# Altium schematic symbol library Supernova Capacitors.SchLib: 91 symbols
Pins are listed as number, name and electrical type; pins without a type are passive.

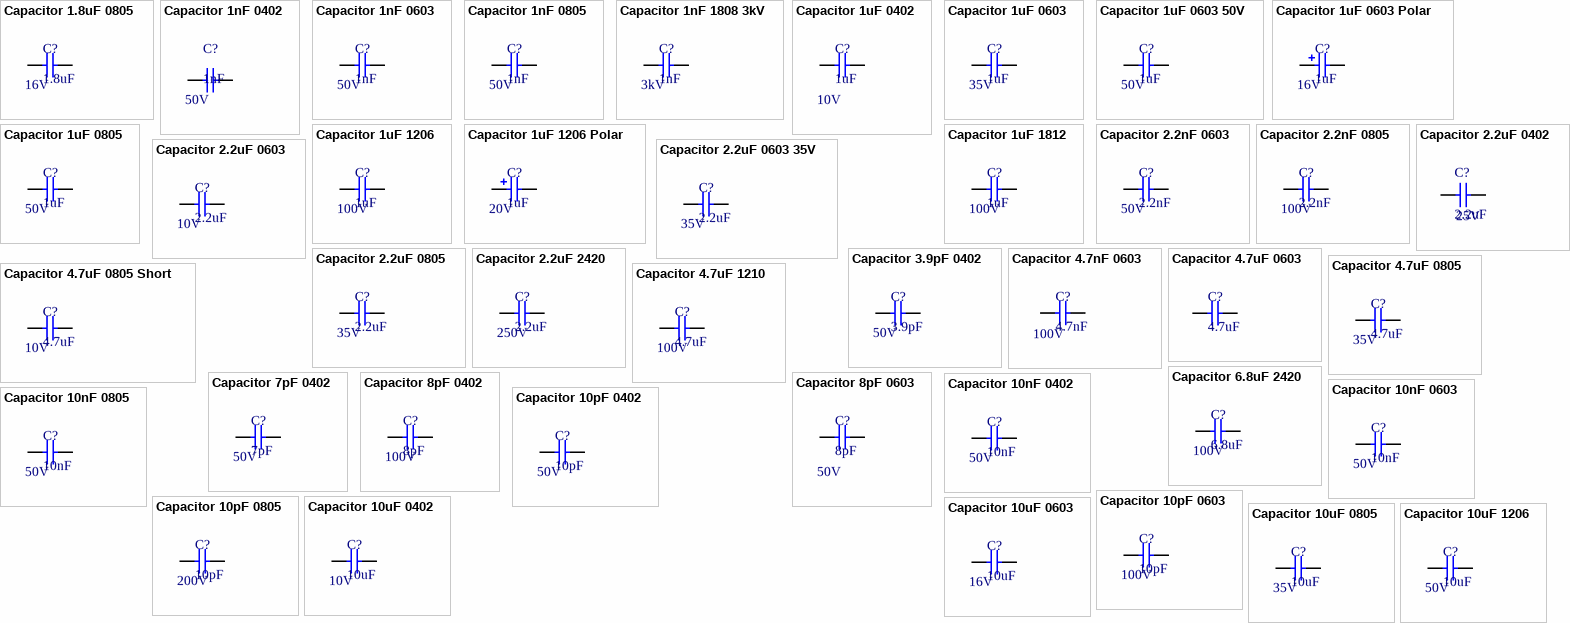
[diagram p0: symbols Capacitor 1.8uF 0805 to Capacitor 10uF 1206]

## Capacitor 1.8uF 0805
designator C?, comment 1.8uF  Voltage: 16V
Capacitor 1.8uF 0805 X7R 16V 10%; Value: 1.8uF; Supplier 1: Digi-Key; Supplier Part Number 1: 399-4933-1-ND; Supplier 2: Digi-Key; Supplier Part Number 2: 399-4934-1-ND
footprint 0805 CAP (Chip Capacitor, 2-Leads, Body 2.05x1.25mm, IPC Medium Density)
pins: 1, 2

## Capacitor 1nF 0402
designator C?, comment 1nF  Voltage: 50V
Capacitor 1nF 0402 NP0 50V 1%; Value: 1nF; Supplier 1: Digi-Key; Supplier Part Number 1: 399-8940-6-ND; Supplier 2: Digi-Key; Supplier Part Number 2: 490-8181-1-ND; Supplier 3: Digi-Key; Supplier Part Number 3: 490-16461-1-ND
footprint 0402 CAP (Chip Capacitor, 2-Leads, Body 1.00x0.50mm, IPC Medium Density)
pins: 1, 2

## Capacitor 1nF 0603
designator C?, comment 1nF  Voltage: 50V
Capacitor 1nF 0603 X7R 50V 5%; Mass_g: 0.0081; Value: 1nF; Supplier 1: Digi-Key; Supplier Part Number 1: 399-1083-1-ND; Supplier 2: Digi-Key; Supplier Part Number 2: 399-12989-1-ND; Supplier 3: Digi-Key; Supplier Part Number 3: 445-12385-1-ND; Supplier 4: Digi-Key; Supplier Part Number 4: 399-C0603C102J5GAC3190CT-ND
footprint 0603 CAP (Chip Capacitor, 2-Leads, Body 1.60x0.81mm, IPC Medium Density)
pins: 1, 2

## Capacitor 1nF 0805
designator C?, comment 1nF  Voltage: 50V
Capacitor 1nF 0805 X8R 50V 10%; Value: 1nF; Supplier 1: Digi-Key; Supplier Part Number 1: 478-3608-1-ND; Supplier 2: Digi-Key; Supplier Part Number 2: 478-5162-1-ND
footprint 0805 CAP (Chip Capacitor, 2-Leads, Body 2.05x1.25mm, IPC Medium Density)
pins: 1, 2

## Capacitor 1nF 1808 3kV
designator C?, comment 1nF  Voltage: 3kV
Capacitor 1nF 1808 X7R 3kV 10%; Value: 1nF; Supplier 1: Digi-Key; Supplier Part Number 1: 478-2981-1-ND; Supplier 2: Digi-Key; Supplier Part Number 2: 478-7474-1-ND; Supplier 3: Digi-Key; Supplier Part Number 3: 709-1047-1-ND; Supplier 4: Digi-Key; Supplier Part Number 4: 399-7246-1-ND; Supplier 5: Digi-Key; Supplier Part Number 5: 399-C1808C102KHRACAUTOCT-ND
footprint 1808 CAP (Chip Capacitor, 2-Leads, Body 4.57x2.03mm, IPC Medium Density)
pins: 1, 2

## Capacitor 1uF 0402
designator C?, comment 1uF  Voltage: 10V
Capacitor 1uF 0402 X5R 10V 10%; Value: 1uF; Supplier 1: Digi-Key; Supplier 2: Digi-Key; Supplier Part Number 1: 1276-1076-1-ND; Supplier Part Number 2: 311-1439-1-ND
footprint 0402 CAP (Chip Capacitor, 2-Leads, Body 1.00x0.50mm, IPC Medium Density)
pins: 1, 2

## Capacitor 1uF 0603
designator C?, comment 1uF  Voltage: 35V
Capacitor 1uF 0603 X7R 35V 10%; Mass_g: 0.0081; Value: 1uF; Supplier 1: Digi-Key; Supplier Part Number 1: 445-173625-1-ND; Supplier 2: Digi-Key; Supplier Part Number 2: 587-4356-1-ND; Supplier 3: Digi-Key; Supplier Part Number 3: 445-174215-1-ND; Supplier 4: Digi-Key; Supplier Part Number 4: 445-C1608X7R1V105M080ACCT-ND; Supplier 5: Mouser; Supplier Part Number 5: 810-C1608X7R1V105MAC
footprint 0603 CAP (Chip Capacitor, 2-Leads, Body 1.60x0.81mm, IPC Medium Density)
pins: 1, 2

## Capacitor 1uF 0603 50V
designator C?, comment 1uF  Voltage: 50V
Capacitor 1uF 0603 X7R 50V 10%; Mass_g: 0.0081; Value: 1uF; Supplier 1: Digi-Key; Supplier Part Number 1: 445-7878-1-ND; Supplier 2: Digi-Key; Supplier Part Number 2: 587-3501-1-ND; Supplier 3: Digi-Key; Supplier Part Number 3: 490-12330-1-ND
footprint 0603 CAP (Chip Capacitor, 2-Leads, Body 1.60x0.81mm, IPC Medium Density)
pins: 1, 2

## Capacitor 1uF 0603 Polar
designator C?, comment 1uF  Voltage: 16V
Capacitor 1uF 0603 TANT 16V 10%; Value: 1uF; Supplier 1: Digi-Key; Supplier Part Number 1: 718-1158-1-ND; Supplier 2: Digi-Key; Supplier Part Number 2: 478-4184-1-ND
footprint 0603 Polar Cap (Chip Capacitor, 2-Leads, Body 1.60x0.85mm, IPC Medium Density)
pins: 1, 2

## Capacitor 1uF 0805
designator C?, comment 1uF  Voltage: 50V
Capacitor 1uF 0805 X7R 50V 10%; Value: 1uF; Supplier 1: Digi-Key; Supplier 2: Digi-Key; Supplier 3: Digi-Key; Supplier Part Number 1: 1276-6470-1-ND; Supplier Part Number 2: 587-2910-1-ND; Supplier Part Number 3: 311-1886-1-ND
footprint 0805 CAP (Chip Capacitor, 2-Leads, Body 2.05x1.25mm, IPC Medium Density)
pins: 1, 2

## Capacitor 1uF 1206
designator C?, comment 1uF  Voltage: 100V
Capacitor 1uF 1206 X7R 100V 10%; Value: 1uF; Supplier 1: Digi-Key; Supplier Part Number 1: 1276-1838-1-ND; Supplier 2: Digi-Key; Supplier Part Number 2: 1276-3094-1-ND
footprint 1206 CAP (Chip Resistor, 2-Leads, Body 3.20x1.60mm, IPC Medium Density)
pins: 1, 2

## Capacitor 1uF 1206 Polar
designator C?, comment 1uF  Voltage: 20V
Capacitor 1uF 1206 TANT 20V 10%; Value: 1uF; Supplier 1: Digi-Key; Supplier 2: Digi-Key; Supplier Part Number 1: 478-2399-1-ND; Supplier Part Number 2: 718-1531-1-ND
footprint 1206 POLAR CAP (Chip Resistor, 2-Leads, Body 3.20x1.60mm, IPC Medium Density)
pins: 1, 2

## Capacitor 1uF 1812
designator C?, comment 1uF  Voltage: 100V
Capacitor 1uF 1812 X7R 100V 10%; Value: 1uF; Supplier 1: Digi-Key; Supplier 2: Digi-Key; Supplier Part Number 1: 399-11968-1-ND; Supplier Part Number 2: 478-3598-1-ND
footprint 1812 CAP (Chip Capacitor, 2-Leads, Body 4.50x3.20mm, IPC Medium Density)
pins: 1, 2

## Capacitor 2.2nF 0603
designator C?, comment 2.2nF  Voltage: 50V
Capacitor 2.2nF 0603 X7R 50V 5%; Mass_g: 0.0081; Value: 2.2nF; Supplier 1: Digi-Key; Supplier Part Number 1: 399-7879-1-ND; Supplier 2: Digi-Key; Supplier Part Number 2: 478-6205-1-ND
footprint 0603 CAP (Chip Capacitor, 2-Leads, Body 1.60x0.81mm, IPC Medium Density)
pins: 1, 2

## Capacitor 2.2nF 0805
designator C?, comment 2.2nF  Voltage: 100V
Capacitor 2.2nF 0805 X7R 100V 5%; Value: 2.2nF; Supplier 1: Digi-Key; Supplier Part Number 1: 478-3746-1-ND; Supplier 2: Digi-Key; Supplier Part Number 2: 478-11623-1-ND
footprint 0805 CAP (Chip Capacitor, 2-Leads, Body 2.05x1.25mm, IPC Medium Density)
pins: 1, 2

## Capacitor 2.2uF 0402
designator C?, comment 2.2uF  Voltage: 25V
Capacitor 2.2uF 0402 X5R 25V 10%; Value: 2.2uF; Supplier 1: Digi-Key; Supplier 2: RSComponents; Supplier 3: Mouser; Supplier Part Number 3: 810-C1005X5R1E225K; Supplier Part Number 2: 9156348P; Supplier Part Number 1: 445-9090-1-ND
footprint 0402 CAP (Chip Capacitor, 2-Leads, Body 1.00x0.50mm, IPC Medium Density)
pins: 1, 2

## Capacitor 2.2uF 0603
designator C?, comment 2.2uF  Voltage: 10V
Capacitor 2.2uF 0603 X7R 10V 10%; Mass_g: 0.0081; Value: 2.2uF; Voltage Rating: 10V; Supplier 1: Digi-Key; Supplier Part Number 1: 445-5958-1-ND; Supplier 2: Digi-Key; Supplier Part Number 2: 587-5835-1-ND; Supplier 3: Digi-Key; Supplier Part Number 3: 732-7946-1-ND; Supplier 4: Digi-Key; Supplier Part Number 4: 587-2983-1-ND; Supplier 5: Digi-Key; Supplier Part Number 5: 1276-1134-1-ND
footprint 0603 CAP (Chip Capacitor, 2-Leads, Body 1.60x0.81mm, IPC Medium Density)
pins: 1, 2

## Capacitor 2.2uF 0603 35V
designator C?, comment 2.2uF  Voltage: 35V
Capacitor 2.2uF 0603 X5R 35V 10%; Mass_g: 0.0081; Value: 2.2uF; Voltage Rating: 35V; Supplier 1: Digi-Key; Supplier Part Number 1: 490-7204-1-ND; Supplier 2: Digi-Key; Supplier Part Number 2: 1276-6726-1-ND
footprint 0603 CAP (Chip Capacitor, 2-Leads, Body 1.60x0.81mm, IPC Medium Density)
pins: 1, 2

## Capacitor 2.2uF 0805
designator C?, comment 2.2uF  Voltage: 35V
Capacitor 2.2uF 0805 X7R 35V 10%; Voltage Rating: 50V; Value: 2.2uF; Supplier 1: Digi-Key; Supplier 2: Digi-Key; Supplier 3: Digi-Key; Supplier 4: Mouser; Supplier Part Number 1: 445-8787-1-ND; Supplier Part Number 2: 445-8892-1-ND; Supplier Part Number 3: 445-7956-1-ND; Supplier Part Number 4: 810-CGA4J1X7R1V225MS
footprint 0805 CAP (Chip Capacitor, 2-Leads, Body 2.05x1.25mm, IPC Medium Density)
pins: 1, 2

## Capacitor 2.2uF 2420
designator C?, comment 2.2uF  Voltage: 250V
Capacitor 2.2uF 2420 X7R 250V 20%; Voltage Rating: 50V; Mass_g: 0.75; Value: 2.2uF; Supplier 1: Digi-Key; Supplier Part Number 1: 565-3244-1-ND; Supplier 2: Mouser; Supplier Part Number 2: 661-KTJ251B225M55BFT; Supplier 3: Digi-Key; Supplier Part Number 3: 445-4110-1-ND; Supplier 4: Mouser; Supplier Part Number 4: 810-CKG57NX7R2E225M; Supplier 5: Digi-Key; Supplier Part Number 5: 445-10508-1-ND; Supplier 6: Digi-Key; Supplier Part Number 6: 399-5814-1-ND
footprint 2420 CAP (Chip Capacitor, 2-Leads, Body 6.00x5.00mm, IPC Medium Density)
pins: 1, 2

## Capacitor 3.9pF 0402
designator C?, comment 3.9pF  Voltage: 50V
Capacitor 3.9pF 0402 NP0 50V +/-0.1pF; Value: 3.9pF; Supplier 1: Digi-Key; Supplier 2: Digi-Key; Supplier Part Number 2: 478-11759-1-ND; Supplier Part Number 1: 490-8099-1-ND
footprint 0402 CAP (Chip Capacitor, 2-Leads, Body 1.00x0.50mm, IPC Medium Density)
pins: 1, 2

## Capacitor 4.7nF 0603
designator C?, comment 4.7nF  Voltage: 100V
Capacitor 4.7nF 0603 X7R 100V 10%; Mass_g: 0.0081; Value: 4.7nF; Supplier 1: Digi-Key; Supplier Part Number 1: 445-5810-1-ND; Supplier 2: Digi-Key; Supplier Part Number 2: 490-5773-1-ND
footprint 0603 CAP (Chip Capacitor, 2-Leads, Body 1.60x0.81mm, IPC Medium Density)
pins: 1, 2

## Capacitor 4.7uF 0603
designator C?, comment 4.7uF
Capacitor 4.7uF 0603 X7R 6.3V 10%; Value: 4.7uF; Supplier 1: Digi-Key; Supplier Part Number 1: 1276-2087-1-ND; Supplier 2: Digi-Key; Supplier 3: Digi-Key; Supplier Part Number 2: 445-7482-1-ND; Supplier Part Number 3: 399-5503-1-ND; Voltage: 6.3V
footprint 0603 CAP (Chip Capacitor, 2-Leads, Body 1.60x0.81mm, IPC Medium Density)
pins: 1, 2

## Capacitor 4.7uF 0805
designator C?, comment 4.7uF  Voltage: 35V
Capacitor 4.7uF 0805 X7R 35V 10%; Mass_g: 0.019; Value: 4.7uF; Supplier 1: Digi-Key; Supplier Part Number 1: 445-172479-1-ND; Supplier 2: Digi-Key; Supplier Part Number 2: 1276-6722-1-ND; Supplier 3: Digi-Key; Supplier Part Number 3: 490-12361-1-ND; Supplier 4: Digi-Key; Supplier Part Number 4: 445-7555-1-ND
footprint 0805 CAP (Chip Capacitor, 2-Leads, Body 2.05x1.25mm, IPC Medium Density)
pins: 1, 2

## Capacitor 4.7uF 0805 Short
designator C?, comment 4.7uF  Voltage: 10V
Capacitor 4.7uF 0805 X5R 10V 10%; Value: 4.7uF; Supplier 1: Digi-Key; Supplier 2: Digi-Key; Supplier 3: Digi-Key; Supplier Part Number 1: 587-4879-1-ND; Supplier Part Number 2: 587-4922-1-ND; Supplier Part Number 3: 587-4880-1-ND
footprint 0805 CAP - short (Chip Capacitor, 2-Leads, Body 2.05x1.25mm, IPC Medium Density)
pins: 1, 2

## Capacitor 4.7uF 1210
designator C?, comment 4.7uF  Voltage: 100V
Capacitor 4.7uF 1210 X7S 100V 20%; Value: 4.7uF; Supplier 1: Digi-Key; Supplier Part Number 1: 445-7985-1-ND; Supplier 2: Digi-Key; Supplier Part Number 2: 490-10955-1-ND
footprint 1210 CAP 2mm (Chip Capacitor, 2-Leads, Body 3.20x2.50mm, IPC Medium Density)
pins: 1, 2

## Capacitor 6.8uF 2420
designator C?, comment 6.8uF  Voltage: 100V
Capacitor 6.8uF 2420 X7R 100V 10%; Value: 6.8uF; Voltage Rating: 100V; Supplier 1: Digi-Key; Supplier Part Number 1: 490-5782-1-ND; Supplier 2: Digi-Key; Supplier Part Number 2: 490-5836-1-ND
footprint 2420 CAP (Chip Capacitor, 2-Leads, Body 6.00x5.00mm, IPC Medium Density)
pins: 1, 2

## Capacitor 7pF 0402
designator C?, comment 7pF  Voltage: 50V
Capacitor 7pF 0402 NP0 50V 0.1pF; Value: 7pF; Supplier 1: Digi-Key; Supplier Part Number 1: 490-6254-1-ND; Supplier 2: Digi-Key; Supplier Part Number 2: 490-11234-1-ND
footprint 0402 CAP (Chip Capacitor, 2-Leads, Body 1.00x0.50mm, IPC Medium Density)
pins: 1, 2

## Capacitor 8pF 0402
designator C?, comment 8pF  Voltage: 100V
Capacitor 8pF 0402 NP0 100V 0.1pF; Mass_g: 0.0025; Value: 8pF; Supplier 1: Digi-Key; Supplier Part Number 1: 399-8830-1-ND; Supplier 2: Digi-Key; Supplier Part Number 2: 490-11238-1-ND
footprint 0402 CAP (Chip Capacitor, 2-Leads, Body 1.00x0.50mm, IPC Medium Density)
pins: 1, 2

## Capacitor 8pF 0603
designator C?, comment 8pF  Voltage: 50V
Capacitor 8pF 0603 NP0 50V 0.25pF; Value: 8pF; Supplier 1: Digi-Key; Supplier Part Number 1: 1276-2139-1-ND; Supplier 2: Digi-Key; Supplier Part Number 2: 490-14618-1-ND
footprint 0603 CAP (Chip Capacitor, 2-Leads, Body 1.60x0.81mm, IPC Medium Density)
pins: 1, 2

## Capacitor 10nF 0402
designator C?, comment 10nF  Voltage: 50V
Capacitor 10nF 0402 X7R 50V 5%; Value: 10nF; Supplier 1: Digi-Key; Supplier Part Number 1: 399-7758-6-ND; Supplier 2: Digi-Key; Supplier 3: Digi-Key; Supplier Part Number 2: 445-6893-1-ND; Supplier Part Number 3: 490-13295-1-ND
footprint 0402 CAP (Chip Capacitor, 2-Leads, Body 1.00x0.50mm, IPC Medium Density)
pins: 1, 2

## Capacitor 10nF 0603
designator C?, comment 10nF  Voltage: 50V
Capacitor 10nF 0603 X7R 50V 5%; Mass_g: 0.0081; Value: 10nF; Supplier 1: Digi-Key; Supplier Part Number 1: 399-1092-1-ND; Supplier 2: Digi-Key; Supplier 3: Digi-Key; Supplier Part Number 2: 399-3190-1-ND; Supplier Part Number 3: 478-10345-1-ND
footprint 0603 CAP (Chip Capacitor, 2-Leads, Body 1.60x0.81mm, IPC Medium Density)
pins: 1, 2

## Capacitor 10nF 0805
designator C?, comment 10nF  Voltage: 50V
Capacitor 10nF 0805 X7R 50V 5%; Value: 10nF; Supplier 1: Digi-Key; Supplier Part Number 1: 478-3768-1-ND; Supplier 2: Digi-Key; Supplier Part Number 2: 399-13174-1-ND
footprint 0805 CAP (Chip Capacitor, 2-Leads, Body 2.05x1.25mm, IPC Medium Density)
pins: 1, 2

## Capacitor 10pF 0402
designator C?, comment 10pF  Voltage: 50V
Capacitor 10pF 0402 NP0 50V 5%; Mass_g: 0.0025; Value: 10pF; Supplier 1: Digi-Key; Supplier Part Number 1: 1276-1626-1-ND; Supplier 2: Digi-Key; Supplier Part Number 2: 490-16462-1-ND
footprint 0402 CAP (Chip Capacitor, 2-Leads, Body 1.00x0.50mm, IPC Medium Density)
pins: 1, 2

## Capacitor 10pF 0603
designator C?, comment 10pF  Voltage: 100V
Capacitor 10pF 0603 NP0 100V 1%; Mass_g: 0.0081; Value: 10pF; Supplier 1: Digi-Key; Supplier Part Number 1: 478-5769-1-ND; Supplier 2: Digi-Key; Supplier Part Number 2: 311-3876-1-ND; Supplier 3: Digi-Key; Supplier Part Number 3: 478-10183-1-ND
footprint 0603 CAP (Chip Capacitor, 2-Leads, Body 1.60x0.81mm, IPC Medium Density)
pins: 1, 2

## Capacitor 10pF 0805
designator C?, comment 10pF  Voltage: 200V
Capacitor 10pF 0805 COG 200V 2%; Mass_g: 0.019; Value: 10pF; Supplier 1: Digi-Key; Supplier Part Number 1: 478-10457-1-ND; Supplier 2: Digi-Key; Supplier Part Number 2: 399-5538-1-ND
footprint 0805 CAP (Chip Capacitor, 2-Leads, Body 2.05x1.25mm, IPC Medium Density)
pins: 1, 2

## Capacitor 10uF 0402
designator C?, comment 10uF  Voltage: 10V
Capacitor 10uF 0402 X5R 10V 20%; Voltage Rating: 35V; Value: 10uF; Supplier 1: Digi-Key; Supplier Part Number 1: 1276-1450-1-ND; Supplier 2: Digi-Key; Supplier Part Number 2: 478-10052-1-ND
footprint 0402 CAP (Chip Capacitor, 2-Leads, Body 1.00x0.50mm, IPC Medium Density)
pins: 1, 2

## Capacitor 10uF 0603
designator C?, comment 10uF  Voltage: 16V
Capacitor 10uF 0603 X5R 16V 10%; Voltage Rating: 35V; Mass_g: 0.0081; Value: 10uF; Supplier 1: Digi-Key; Supplier Part Number 1: 490-10728-1-ND; Supplier 2: Digi-Key; Supplier 3: Digi-Key; Supplier Part Number 2: 490-12317-1-ND; Supplier Part Number 3: 445-9065-1-ND
footprint 0603 CAP (Chip Capacitor, 2-Leads, Body 1.60x0.81mm, IPC Medium Density)
pins: 1, 2

## Capacitor 10uF 0805
designator C?, comment 10uF  Voltage: 35V
Capacitor 10uF 0805 X5R 35V 10%; Mass_g: 0.019; Value: 10uF; Voltage Rating: 35V; Supplier 1: Digi-Key; Supplier Part Number 1: 445-14417-1-ND; Supplier 2: Digi-Key; Supplier Part Number 2: 587-4893-1-ND; Supplier 3: Digi-Key; Supplier Part Number 3: 490-10515-1-ND; Supplier 4: RSComponents; Supplier Part Number 4: 1726499; Supplier 5: Digi-Key; Supplier Part Number 5: 311-3499-2-ND; Supplier 6: Digi-Key; Supplier Part Number 6: 490-18664-1-ND; Supplier 7: Mouser; Supplier Part Number 7: 81-GRM21BR61H106ME3L; Supplier 8: Digi-Key; Supplier Part Number 8: 445-14418-1-ND
footprint 0805 CAP (Chip Capacitor, 2-Leads, Body 2.05x1.25mm, IPC Medium Density)
footprint 0805 CAP - SM Defined (Chip Capacitor, 2-Leads, Body 2.05x1.25mm, IPC Medium Density)
pins: 1, 2

## Capacitor 10uF 1206
designator C?, comment 10uF  Voltage: 50V
Capacitor 10uF 1206 X5R 50V 20%; Value: 10uF; Voltage Rating: 50V; Supplier 1: Digi-Key; Supplier Part Number 1: 445-1277-1-ND; Supplier 2: Mouser; Supplier Part Number 2: 810-C1608C0G1H470J; Supplier 3: Digi-Key; Supplier Part Number 3: 490-12457-1-ND; Supplier 4: Mouser; Supplier Part Number 4: 81-GRT31CR61H106ME1L
footprint 1206 CAP (Chip Resistor, 2-Leads, Body 3.20x1.60mm, IPC Medium Density)
pins: 1, 2

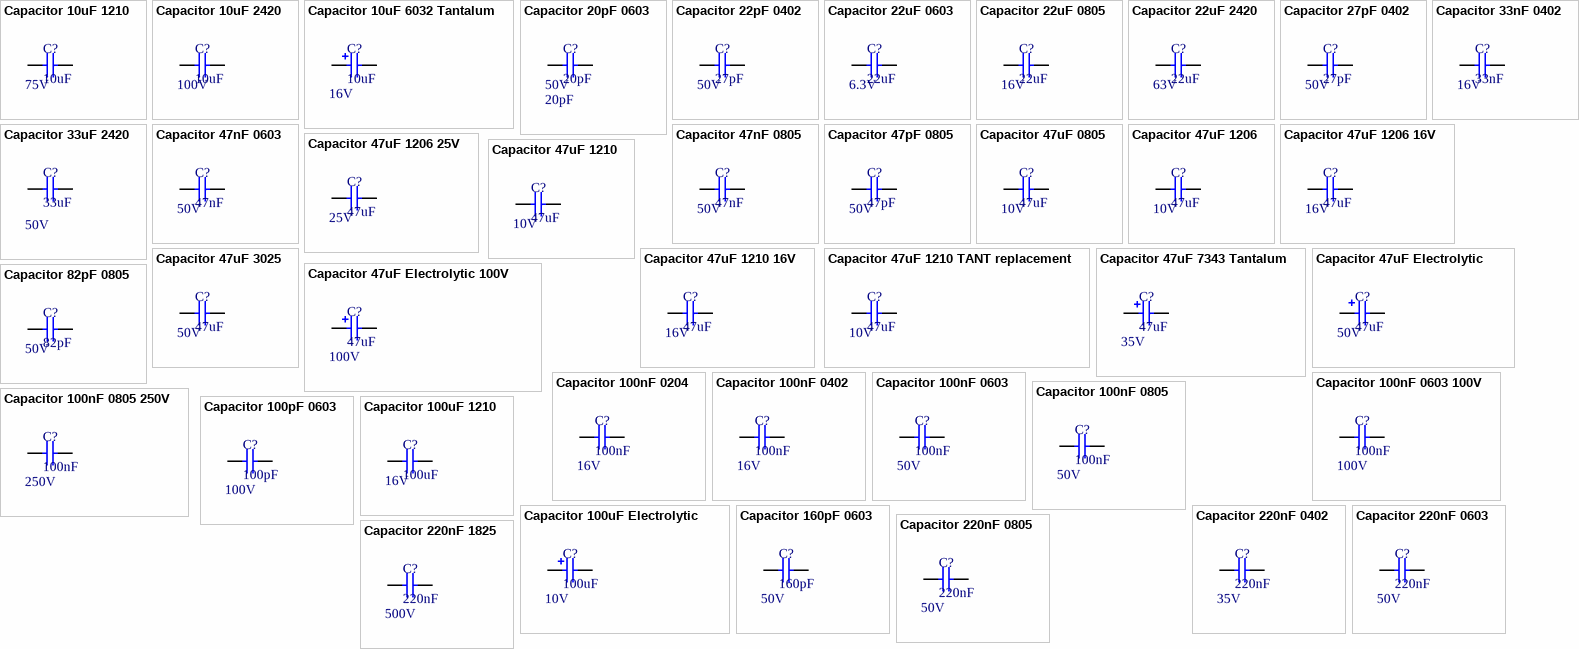
[diagram p1: symbols Capacitor 10uF 1210 to Capacitor 220nF 1825]

## Capacitor 10uF 1210
designator C?, comment 10uF  Voltage: 75V
Capacitor 10uF 1210 X7R 75V 10%; Value: 10uF; Voltage Rating: 75V; Supplier 1: Digi-Key; Supplier Part Number 1: 445-181658-1-ND; Supplier 2: Digi-Key; Supplier Part Number 2: 445-C3225X7R1N106K250ACCT-ND
footprint 1210 CAP (Chip Capacitor, 2-Leads, Body 3.20x2.50mm, IPC Medium Density)
pins: 1, 2

## Capacitor 10uF 2420
designator C?, comment 10uF  Voltage: 100V
Capacitor 10uF 2420 X7R 100V 20%; Voltage Rating: 35V; Mass_g: 0.75; Value: 10uF; Supplier 1: Digi-Key; Supplier 2: Digi-Key; Supplier Part Number 1: 445-4109-1-ND; Supplier Part Number 2: 565-3241-1-ND
footprint 2420 CAP (Chip Capacitor, 2-Leads, Body 6.00x5.00mm, IPC Medium Density)
pins: 1, 2

## Capacitor 10uF 6032 Tantalum
designator C?, comment 10uF  Voltage: 16V
Capacitor 10uF 6032 TANT 16V 10%; Value: 10uF; Supplier 1: Digi-Key; Supplier Part Number 1: 399-3732-1-ND; Supplier 2: Digi-Key; Supplier Part Number 2: 399-3733-1-ND
footprint 6032 POLAR CAP (Molded Capacitor, 2-Leads, Body 6.00x3.20mm, IPC Medium Density)
pins: 1, 2

## Capacitor 20pF 0603
designator C?, comment 20pF  Voltage: 50V
Capacitor 20pF 0603 X7R 50V 5%; Mass_g: 0.0081; Supplier 1: Digi-Key; Supplier 2: Mouser; Supplier Part Number 1: 490-1410-1-ND; Supplier Part Number 2: 187-CL10C200JB8NNNC; Value: 20pF
footprint 0603 CAP (Chip Capacitor, 2-Leads, Body 1.60x0.81mm, IPC Medium Density)
pins: 1, 2

## Capacitor 22pF 0402
designator C?, comment 27pF  Voltage: 50V
Capacitor 22pF 0402 NP0 50V 1%; Value: 27pF; Supplier 1: Digi-Key; Supplier 2: Digi-Key; Supplier 3: Digi-Key; Supplier Part Number 1: 311-3330-1-ND; Supplier Part Number 2: 490-16451-1-ND; Supplier Part Number 3: 490-17796-1-ND
footprint 0402 CAP (Chip Capacitor, 2-Leads, Body 1.00x0.50mm, IPC Medium Density)
pins: 1, 2

## Capacitor 22uF 0603
designator C?, comment 22uF  Voltage: 6.3V
Capacitor 22uF 0603 X5R 6.3V 10%; Voltage Rating: 25V; Value: 22uF; Supplier 1: Digi-Key; Supplier Part Number 1: 1276-2867-1-ND; Supplier 2: Digi-Key; Supplier Part Number 2: 1276-2868-1-ND
footprint 0603 CAP (Chip Capacitor, 2-Leads, Body 1.60x0.81mm, IPC Medium Density)
pins: 1, 2

## Capacitor 22uF 0805
designator C?, comment 22uF  Voltage: 16V
Capacitor 22uF 0805 X5R 16V 20%; Voltage Rating: 25V; Value: 22uF; Supplier 1: Digi-Key; Supplier Part Number 1: 1276-6526-1-ND; Supplier 2: Digi-Key; Supplier Part Number 2: 1276-2908-1-ND; Supplier 3: Digi-Key; Supplier Part Number 3: 1276-6780-1-ND; Supplier 4: Digi-Key; Supplier Part Number 4: 490-12383-1-ND
footprint 0805 CAP (Chip Capacitor, 2-Leads, Body 2.05x1.25mm, IPC Medium Density)
pins: 1, 2

## Capacitor 22uF 2420
designator C?, comment 22uF  Voltage: 63V
Capacitor 22uF 2420 X7R 63V 20%; Value: 22uF; Voltage Rating: 63V; Supplier 1: Digi-Key; Supplier Part Number 1: 490-5786-1-ND; Supplier 2: Digi-Key; Supplier Part Number 2: 490-5839-1-ND
footprint 2420 CAP (Chip Capacitor, 2-Leads, Body 6.00x5.00mm, IPC Medium Density)
pins: 1, 2

## Capacitor 27pF 0402
designator C?, comment 27pF  Voltage: 50V
Capacitor 27pF 0402 NP0 50V 1%; Value: 27pF; Supplier 1: Digi-Key; Supplier Part Number 1: 490-6223-1-ND; Supplier 2: Digi-Key; Supplier 3: Digi-Key; Supplier Part Number 2: 399-11120-1-ND; Supplier Part Number 3: 478-10094-1-ND
footprint 0402 CAP (Chip Capacitor, 2-Leads, Body 1.00x0.50mm, IPC Medium Density)
pins: 1, 2

## Capacitor 33nF 0402
designator C?, comment 33nF  Voltage: 16V
Capacitor 33nF 0402 X7R 16V 10%; Value: 33nF; Supplier 1: Digi-Key; Supplier 2: Digi-Key; Supplier Part Number 1: 1276-1177-1-ND; Supplier Part Number 2: 490-3257-1-ND
footprint 0402 CAP (Chip Capacitor, 2-Leads, Body 1.00x0.50mm, IPC Medium Density)
pins: 1, 2

## Capacitor 33uF 2420
designator C?, comment 33uF  Voltage: 50V
Capacitor 33uF 2420 X7R 50V 20%; Mass_g: 0.75; Value: 33uF; Voltage Rating: 50V; Supplier 1: Digi-Key; Supplier Part Number 1: 490-16297-1-ND; Supplier 2: Arrow Electronics; Supplier Part Number 2: KCM55WR71H336MH01L; Supplier 3: Digi-Key; Supplier Part Number 3: 490-14473-1-ND
footprint 2420 CAP (Chip Capacitor, 2-Leads, Body 6.00x5.00mm, IPC Medium Density)
pins: 1, 2

## Capacitor 47nF 0603
designator C?, comment 47nF  Voltage: 50V
Capacitor 47nF 0603 X7R 50V 5%; Value: 47nF; Supplier 1: Digi-Key; Supplier Part Number 1: 399-7930-1-ND; Supplier 2: Digi-Key; Supplier Part Number 2: 399-9094-1-ND
footprint 0603 CAP (Chip Capacitor, 2-Leads, Body 1.60x0.81mm, IPC Medium Density)
pins: 1, 2

## Capacitor 47nF 0805
designator C?, comment 47nF  Voltage: 50V
Capacitor 47nF 0805 X7R 50V 5%; Value: 47nF; Supplier 1: Digi-Key; Supplier Part Number 1: 478-3771-1-ND; Supplier 2: Digi-Key; Supplier Part Number 2: 478-10691-1-ND
footprint 0805 CAP (Chip Capacitor, 2-Leads, Body 2.05x1.25mm, IPC Medium Density)
pins: 1, 2

## Capacitor 47pF 0805
designator C?, comment 47pF  Voltage: 50V
Capacitor 47pF 0805 NP0 50V 5%; Value: 47pF; Supplier 1: Digi-Key; Supplier Part Number 1: 1276-1156-1-ND; Supplier 2: Digi-Key; Supplier Part Number 2: 399-6963-1-ND; Supplier 3: Digi-Key; Supplier Part Number 3: 1276-6521-1-ND
footprint 0805 CAP (Chip Capacitor, 2-Leads, Body 2.05x1.25mm, IPC Medium Density)
pins: 1, 2

## Capacitor 47uF 0805
designator C?, comment 47uF  Voltage: 10V
Capacitor 47uF 0805 X5R 10V 20%; Value: 47uF; Supplier 1: Digi-Key; Supplier Part Number 1: 445-8239-1-ND; Supplier 2: Digi-Key; Supplier Part Number 2: 587-5465-1-ND
footprint 0805 CAP (Chip Capacitor, 2-Leads, Body 2.05x1.25mm, IPC Medium Density)
pins: 1, 2

## Capacitor 47uF 1206
designator C?, comment 47uF  Voltage: 10V
Capacitor 47uF 1206 X5R 10V 10%; Value: 47uF; Supplier 1: Digi-Key; Supplier Part Number 1: 587-1780-2-ND; Supplier 2: Digi-Key; Supplier Part Number 2: 587-3428-2-ND; Supplier 3: Digi-Key; Supplier Part Number 3: 490-12438-1-ND
footprint 1206 CAP (Chip Resistor, 2-Leads, Body 3.20x1.60mm, IPC Medium Density)
pins: 1, 2

## Capacitor 47uF 1206 16V
designator C?, comment 47uF  Voltage: 16V
Capacitor 47uF 1206 X5R 16V 20%; Value: 47uF; Supplier 1: Digi-Key; Supplier Part Number 1: 478-1206YD476MAT2ACT-ND; Supplier 2: Mouser; Supplier Part Number 2: 963-EMK316BBJ476ML-T
footprint 1206 CAP (Chip Resistor, 2-Leads, Body 3.20x1.60mm, IPC Medium Density)
pins: 1, 2

## Capacitor 47uF 1206 25V
designator C?, comment 47uF  Voltage: 25V
Capacitor 47uF 1206 X5R 25V 20%; Value: 47uF; Supplier 1: Digi-Key; Supplier Part Number 1: 445-8047-1-ND; Supplier 2: Digi-Key; Supplier Part Number 2: 490-16268-1-ND; Supplier 3: RSComponents; Supplier Part Number 3: 7883060
footprint 1206 CAP (Chip Resistor, 2-Leads, Body 3.20x1.60mm, IPC Medium Density)
pins: 1, 2

## Capacitor 47uF 1210
designator C?, comment 47uF  Voltage: 10V
Capacitor 47uF 1210 X7R 10V 10%; Value: 47uF; Supplier 1: Digi-Key; Supplier Part Number 1: 490-5312-1-ND; Supplier 2: Digi-Key; Supplier Part Number 2: 1276-3376-1-ND
footprint 1210 CAP (Chip Capacitor, 2-Leads, Body 3.20x2.50mm, IPC Medium Density)
pins: 1, 2

## Capacitor 47uF 1210 16V
designator C?, comment 47uF  Voltage: 16V
Capacitor 47uF 1210 X6S 16V 10%; Value: 47uF; Supplier 1: Digi-Key; Supplier Part Number 1: 490-12494-1-ND; Supplier 2: Digi-Key; Supplier Part Number 2: 490-12495-1-ND
footprint 1210 CAP (Chip Capacitor, 2-Leads, Body 3.20x2.50mm, IPC Medium Density)
pins: 1, 2

## Capacitor 47uF 1210 TANT replacement
designator C?, comment 47uF  Voltage: 10V
Capacitor 47uF 1210 X7R 10V 20%; Value: 47uF; Supplier 1: Digi-Key; Supplier Part Number 1: 399-12072-1-ND; Supplier 2: Mouser; Supplier Part Number 2: 80-C1210C476M8R
footprint 6032 POLAR CAP (Molded Capacitor, 2-Leads, Body 6.00x3.20mm, IPC Medium Density)
pins: 1, 2

## Capacitor 47uF 3025
designator C?, comment 47uF  Voltage: 50V
Capacitor 47uF 3025 X7R 50V 20%; Value: 47uF; Supplier 1: Digi-Key; Supplier Part Number 1: 565-4687-1-ND; Supplier 2: Mouser; Supplier Part Number 2: 661-KTJ500B476M76BFT
footprint 3025 Cap
pins: 1, 2

## Capacitor 47uF 7343 Tantalum
designator C?, comment 47uF  Voltage: 35V
Capacitor 47uF 7343 TANT 35V 10%; Value: 47uF; Supplier 1: Digi-Key; Supplier Part Number 1: 399-3905-1-ND; Supplier 2: Digi-Key; Supplier Part Number 2: 399-10312-1-ND
footprint 7043 POLAR CAP (Molded Capacitor, 2-Leads, Body 7.30x4.30mm, IPC Medium Density)
pins: 1, 2

## Capacitor 47uF Electrolytic
designator C?, comment 47uF  Voltage: 50V
Capacitor 47uF ELECTROLYTIC 6.3mm SMD 50V 20%; Value: 47uF; Supplier 1: Digi-Key; Supplier Part Number 1: PCE4800CT-ND; Supplier 2: Digi-Key; Supplier Part Number 2: PCE3929CT-ND
footprint CAPACITOR 6.3mm SMD (Aluminum Electrolytic Capacitor, Body 6.60x35.40x8.00mm, IPC Low Density)
pins: 1, 2

## Capacitor 47uF Electrolytic 100V
designator C?, comment 47uF  Voltage: 100V
Capacitor 47uF ELECTROLYTIC 10mm 100V 20%; Value: 47uF; Supplier 1: Digi-Key; Supplier 2: Mouser; Supplier 3: Digi-Key; Supplier Part Number 1: 732-11986-1-ND; Supplier Part Number 2: 710-870055975004; Supplier Part Number 3: 1572-1734-ND
footprint Capacitor 10mm TH
pins: 1, 2

## Capacitor 82pF 0805
designator C?, comment 82pF  Voltage: 50V
Capacitor 82pF 0805 NP0 50V 5%; Value: 82pF; Supplier 1: Digi-Key; Supplier Part Number 1: 1276-2695-1-ND; Supplier 2: Digi-Key; Supplier Part Number 2: 399-19480-1-ND
footprint 0805 CAP (Chip Capacitor, 2-Leads, Body 2.05x1.25mm, IPC Medium Density)
pins: 1, 2

## Capacitor 100nF 0204
designator C?, comment 100nF  Voltage: 16V
Capacitor 100nF 0204 X5R 16V 20%; Value: 100nF; Supplier 1: Digi-Key; Supplier Part Number 1: 445-13583-1-ND; Supplier 2: Digi-Key; Supplier Part Number 2: 587-5138-1-ND
footprint 0204 CAP (Chip Capacitor, 2-Leads, Body 0.52x1.00mm, IPC Medium Density)
pins: 1, 2

## Capacitor 100nF 0402
designator C?, comment 100nF  Voltage: 16V
Capacitor 100nF 0402 X7R 16V 5%; Mass_g: 0.0025; Value: 100nF; Supplier 1: Digi-Key; Supplier Part Number 1: 399-7761-1-ND; Supplier 2: Digi-Key; Supplier Part Number 2: 478-11505-1-ND; Supplier 3: Digi-Key; Supplier Part Number 3: 587-1994-1-ND; Supplier 4: Digi-Key; Supplier Part Number 4: 478-11502-1-ND; Supplier 5: Digi-Key; Supplier Part Number 5: 478-10050-1-ND
footprint 0402 CAP (Chip Capacitor, 2-Leads, Body 1.00x0.50mm, IPC Medium Density)
pins: 1, 2

## Capacitor 100nF 0603
designator C?, comment 100nF  Voltage: 50V
Capacitor 100nF 0603 X7R 50V 5%; Value: 100nF; Supplier 1: Digi-Key; Supplier Part Number 1: 490-10901-1-ND; Supplier 2: Mouser; Supplier Part Number 2: 843-0603Y50104KETFB6; Supplier 3: Mouser; Supplier Part Number 3: 80-C0603C104M5R
footprint 0603 CAP (Chip Capacitor, 2-Leads, Body 1.60x0.81mm, IPC Medium Density)
pins: 1, 2

## Capacitor 100nF 0603 100V
designator C?, comment 100nF  Voltage: 100V
Capacitor 100nF 0603 X7R 100V 10%; Value: 100nF; Supplier 1: Digi-Key; Supplier Part Number 1: 587-6009-1-ND; Supplier 2: Digi-Key; Supplier Part Number 2: 490-13420-1-ND
footprint 0603 CAP (Chip Capacitor, 2-Leads, Body 1.60x0.81mm, IPC Medium Density)
pins: 1, 2

## Capacitor 100nF 0805
designator C?, comment 100nF  Voltage: 50V
Capacitor 100nF 0805 X7R 50V 5%; Supplier 1: Digi-Key; Supplier Part Number 1: 478-3352-1-ND; Value: 100nF; Supplier 2: Digi-Key; Supplier 3: Digi-Key; Supplier Part Number 2: 478-5780-1-ND; Supplier Part Number 3: 399-6359-1-ND
footprint 0805 CAP (Chip Capacitor, 2-Leads, Body 2.05x1.25mm, IPC Medium Density)
footprint 0805 CAP - SM Defined (Chip Capacitor, 2-Leads, Body 2.05x1.25mm, IPC Medium Density)
pins: 1, 2

## Capacitor 100nF 0805 250V
designator C?, comment 100nF  Voltage: 250V
Capacitor 100nF 0805 X7T 250V 10%; Mass_g: 0.019; Value: 100nF; Supplier 1: Digi-Key; Supplier 2: Digi-Key; Supplier Part Number 1: 445-8883-1-ND; Supplier Part Number 2: 445-8778-1-ND
footprint 0805 CAP (Chip Capacitor, 2-Leads, Body 2.05x1.25mm, IPC Medium Density)
pins: 1, 2

## Capacitor 100pF 0603
designator C?, comment 100pF  Voltage: 100V
Capacitor 100pF 0603 COG 100V 5%; Value: 100pF; Supplier 1: Digi-Key; Supplier Part Number 1: 1276-2166-1-ND; Supplier 2: Digi-Key; Supplier Part Number 2: 478-9852-1-ND; Supplier 3: Digi-Key; Supplier Part Number 3: 445-5724-1-ND
footprint 0603 CAP (Chip Capacitor, 2-Leads, Body 1.60x0.81mm, IPC Medium Density)
pins: 1, 2

## Capacitor 100uF 1210
designator C?, comment 100uF  Voltage: 16V
Capacitor 100uF 1210 X5R 16V 20%; Mass_g: 0.110; Value: 100uF; Supplier 1: Digi-Key; Supplier Part Number 1: 587-3152-1-ND; Supplier 2: Mouser; Supplier Part Number 2: 963-EMK325ABJ107MM-P; Supplier 3: Digi-Key; Supplier Part Number 3: 478-11408-1-ND; Supplier 4: Digi-Key; Supplier Part Number 4: 587-5426-1-ND; Supplier 5: Newark; Supplier Part Number 5: 96Y7333; Supplier 6: Digi-Key; Supplier Part Number 6: 399-11270-1-ND; Supplier 7: Mouser; Supplier Part Number 7: 603-CC121MKX5R7BB107
footprint 1210 CAP (Chip Capacitor, 2-Leads, Body 3.20x2.50mm, IPC Medium Density)
pins: 1, 2

## Capacitor 100uF Electrolytic
designator C?, comment 100uF  Voltage: 10V
Capacitor 100uF ELECTROLYTIC 4mm 10V 20%; Value: 100uF; Supplier 1: Digi-Key; Supplier 2: Mouser; Supplier Part Number 1: 493-12750-1-ND; Supplier Part Number 2: 647-UVR1A101MDD6TP
footprint Capacitor 4mm TH
pins: 1, 2

## Capacitor 160pF 0603
designator C?, comment 160pF  Voltage: 50V
Capacitor 160pF 0603 NP0 50V 2%; Value: 160pF; Supplier 1: Digi-Key; Supplier 2: Digi-Key; Supplier Part Number 1: 399-14491-1-ND; Supplier Part Number 2: 490-16343-1-ND
footprint 0603 CAP (Chip Capacitor, 2-Leads, Body 1.60x0.81mm, IPC Medium Density)
pins: 1, 2

## Capacitor 220nF 0402
designator C?, comment 220nF  Voltage: 35V
Capacitor 220nF 0402 X7R 35V 10%; Mass_g: 0.0025; Value: 220nF; Supplier 1: Digi-Key; Supplier Part Number 1: 445-174422-1-ND; Supplier 2: Digi-Key; Supplier Part Number 2: 445-173767-1-ND
footprint 0402 CAP (Chip Capacitor, 2-Leads, Body 1.00x0.50mm, IPC Medium Density)
pins: 1, 2

## Capacitor 220nF 0603
designator C?, comment 220nF  Voltage: 50V
Capacitor 220nF 0603 X7R 50V 10%; Value: 220nF; Supplier 1: Digi-Key; Supplier Part Number 1: 490-5402-1-ND; Supplier 2: Digi-Key; Supplier Part Number 2: 1276-6600-1-ND
footprint 0603 CAP (Chip Capacitor, 2-Leads, Body 1.60x0.81mm, IPC Medium Density)
pins: 1, 2

## Capacitor 220nF 0805
designator C?, comment 220nF  Voltage: 50V
Capacitor 220nF 0805 X7R 50V 5%; Value: 220nF; Supplier 1: Digi-Key; Supplier Part Number 1: 478-7437-1-ND; Supplier 2: Digi-Key; Supplier Part Number 2: 399-9203-1-ND
footprint 0805 CAP (Chip Capacitor, 2-Leads, Body 2.05x1.25mm, IPC Medium Density)
pins: 1, 2

## Capacitor 220nF 1825
designator C?, comment 220nF  Voltage: 500V
Capacitor 220nF 1825 X7R 500V 10%; Value: 220nF; Supplier 1: Digi-Key; Supplier 2: Digi-Key; Supplier Part Number 1: 399-16348-1-ND; Supplier Part Number 2: 399-15633-1-ND
footprint 1825 CAP (Chip Capacitor, 2-Leads, Body 4.60x6.40mm, IPC Medium Density)
pins: 1, 2

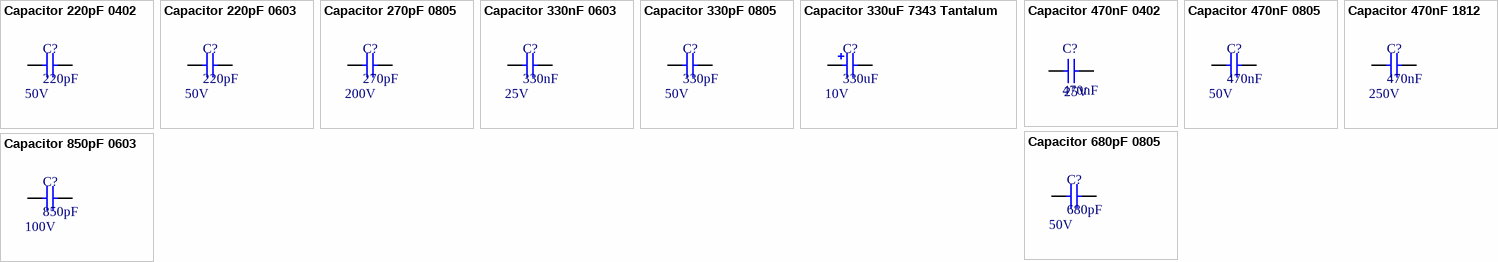
[diagram p2: symbols Capacitor 220pF 0402 to Capacitor 850pF 0603]

## Capacitor 220pF 0402
designator C?, comment 220pF  Voltage: 50V
Capacitor 220pF 0402 NPO 50V 5%; Value: 220pF; Supplier 1: Digi-Key; Supplier 2: Digi-Key; Supplier Part Number 1: 1276-1059-1-ND; Supplier Part Number 2: 311-1416-1-ND
footprint 0402 CAP (Chip Capacitor, 2-Leads, Body 1.00x0.50mm, IPC Medium Density)
pins: 1, 2

## Capacitor 220pF 0603
designator C?, comment 220pF  Voltage: 50V
Capacitor 220pF 0603 X7R 50V 5%; Value: 220pF; Supplier 1: Digi-Key; Supplier Part Number 1: 399-7876-1-ND; Supplier 2: Digi-Key; Supplier Part Number 2: 1276-2230-1-ND
footprint 0603 CAP (Chip Capacitor, 2-Leads, Body 1.60x0.81mm, IPC Medium Density)
pins: 1, 2

## Capacitor 270pF 0805
designator C?, comment 270pF  Voltage: 200V
Capacitor 270pF 0805 NP0 200V 5%; Value: 270pF; Supplier 1: Digi-Key; Supplier 2: Digi-Key; Supplier Part Number 1: 490-16817-1-ND; Supplier Part Number 2: 445-172584-1-ND
footprint 0805 CAP (Chip Capacitor, 2-Leads, Body 2.05x1.25mm, IPC Medium Density)
pins: 1, 2

## Capacitor 330nF 0603
designator C?, comment 330nF  Voltage: 25V
Capacitor 330nF 0603 X7R 25V 5%; Value: 330nF; Supplier 1: Digi-Key; Supplier 2: Digi-Key; Supplier Part Number 1: 311-3573-1-ND; Supplier Part Number 2: 445-12545-1-ND
footprint 0603 CAP (Chip Capacitor, 2-Leads, Body 1.60x0.81mm, IPC Medium Density)
pins: 1, 2

## Capacitor 330pF 0805
designator C?, comment 330pF  Voltage: 50V
Capacitor 330pF 0805 NP0 50V 5%; Value: 330pF; Supplier 1: Digi-Key; Supplier Part Number 1: 1276-1189-1-ND; Supplier 2: Digi-Key; Supplier Part Number 2: 399-1130-1-ND
footprint 0805 CAP (Chip Capacitor, 2-Leads, Body 2.05x1.25mm, IPC Medium Density)
pins: 1, 2

## Capacitor 330uF 7343 Tantalum
designator C?, comment 330uF  Voltage: 10V
Capacitor 330uF 7343 TANT 10V 10%; Value: 330uF; Supplier 1: Digi-Key; Supplier 2: Digi-Key; Supplier Part Number 1: 718-1747-1-ND; Supplier Part Number 2: 399-8385-1-ND
footprint 7043 POLAR CAP (Molded Capacitor, 2-Leads, Body 7.30x4.30mm, IPC Medium Density)
pins: 1, 2

## Capacitor 470nF 0402
designator C?, comment 470nF  Voltage: 25V
Capacitor 470nF 0402 X5R 25V 10%; Mass_g: 0.0025; Value: 470nF; Supplier 1: Digi-Key; Supplier 2: Mouser; Supplier Part Number 1: 490-14365-1-ND; Supplier Part Number 2: 81-GRM155R61E474KE1D
footprint 0402 CAP (Chip Capacitor, 2-Leads, Body 1.00x0.50mm, IPC Medium Density)
pins: 1, 2

## Capacitor 470nF 0805
designator C?, comment 470nF  Voltage: 50V
Capacitor 470nF 0805 X7R 50V 5%; Value: 470nF; Supplier 1: Digi-Key; Supplier Part Number 1: 399-11174-1-ND; Supplier 2: Digi-Key; Supplier Part Number 2: 399-17637-1-ND
footprint 0805 CAP (Chip Capacitor, 2-Leads, Body 2.05x1.25mm, IPC Medium Density)
pins: 1, 2

## Capacitor 470nF 1812
designator C?, comment 470nF  Voltage: 250V
Capacitor 470nF 1812 X7R 250V 10%; Value: 470nF; Supplier 1: Digi-Key; Supplier 2: Digi-Key; Supplier 3: Mouser; Supplier Part Number 1: 445-8772-1-ND; Supplier Part Number 2: 399-5852-1-ND; Supplier Part Number 3: 80-C1812X474KAR
footprint 1812 CAP (Chip Capacitor, 2-Leads, Body 4.50x3.20mm, IPC Medium Density)
pins: 1, 2

## Capacitor 680pF 0805
designator C?, comment 680pF  Voltage: 50V
Capacitor 680pF 0805 NP0 50V 5%; Value: 680pF; Supplier 1: Digi-Key; Supplier Part Number 1: 1276-2685-1-ND; Supplier 2: Digi-Key; Supplier Part Number 2: 1276-6686-1-ND
footprint 0805 CAP (Chip Capacitor, 2-Leads, Body 2.05x1.25mm, IPC Medium Density)
pins: 1, 2

## Capacitor 850pF 0603
designator C?, comment 850pF  Voltage: 100V
Capacitor 850pF 0603 RF 100V; Value: 850pF; Supplier 1: Digi-Key; Supplier Part Number 1: 1761-1075-1-ND; Supplier 2: Digi-Key; Supplier Part Number 2: 1761-1083-1-ND
footprint 0603 CAP (Chip Capacitor, 2-Leads, Body 1.60x0.81mm, IPC Medium Density)
pins: 1, 2